# Altium footprint library DF12(4.0)-30DP-0.5V (header).PcbLib: 1 footprints
Each footprint in its own frame and in the unit in brackets; x right, y up, seen from the top. Pads: shape width x height; smd on the part's side, far side on the other; paste and mask are expansions set on the pad; w line width, h text height; cw(c..) or ccw(c..) is an arc to the next point about the centre after c.
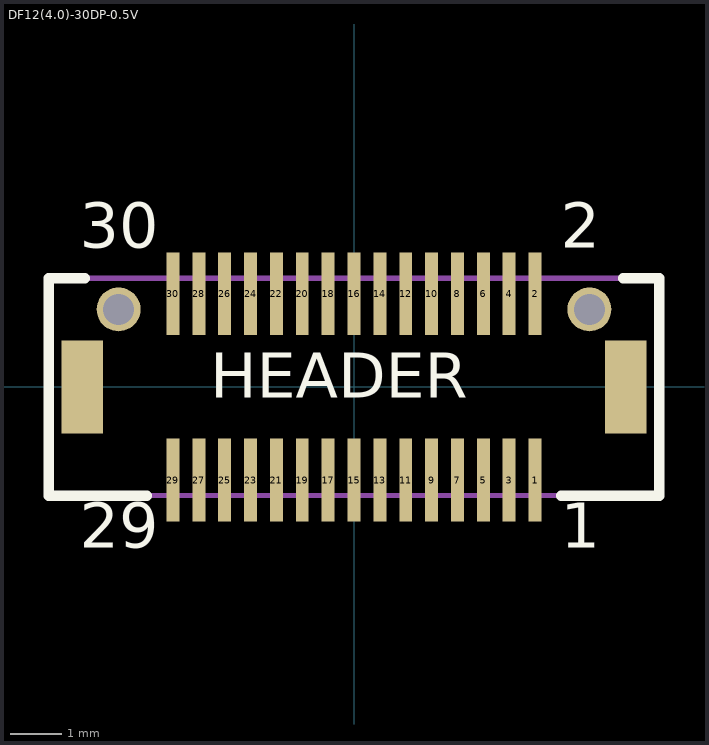
[diagram p0: the footprint, top view; thin cyan lines are the x and y axes]

## DF12(4.0)-30DP-0.5V [mm] "HRS (HIROSE) - DF12(4.0)-30DP-0.5V(86) - HEADER, 4MM HEIGHT, 30WAY"
height 4
pads (34):
  rect 0.25x1.6 smd mask+0.08: 1(3.5,-1.8) 2(3.5,1.8) 3(3,-1.8) 4(3,1.8) 5(2.5,-1.8) 6(2.5,1.8) 7(2,-1.8) 8(2,1.8) 9(1.5,-1.8) 10(1.5,1.8) 11(1,-1.8) 12(1,1.8) 13(0.5,-1.8) 14(0.5,1.8) 15(0,-1.8) 16(0,1.8) 17(-0.5,-1.8) 18(-0.5,1.8) 19(-1,-1.8) 20(-1,1.8) 21(-1.5,-1.8) 22(-1.5,1.8) 23(-2,-1.8) 24(-2,1.8) 25(-2.5,-1.8) 26(-2.5,1.8) 27(-3,-1.8) 28(-3,1.8) 29(-3.5,-1.8) 30(-3.5,1.8)
  rect 0.8x1.8 smd: ""(-5.25,0) ""(5.25,0)
  round 0.85 hole 0.6: ""(-4.55,1.5) ""(4.55,1.5)
Top Overlay:
  lines w0.2: -5.2,2.1 -5.9,2.1 -5.9,-2.1 -4,-2.1 ; 4,-2.1 5.9,-2.1 5.9,2.1 5.2,2.1
  text "30" at -5.3,2.4 h1.5
  text "29" at -5.3,-3.4 h1.5
  text "2" at 4,2.4 h1.5
  text "1" at 4,-3.4 h1.5
  text "HEADER" at -2.775,-0.5 h1.5
Mechanical 13:
  lines w0.1: -5.9,-2.1 5.9,-2.1 5.9,2.1 -5.9,2.1 -5.9,-2.1
3D body: height 2.29, standoff -0.61, extent -5.308,-2.3 5.308,2.3